# Altium footprint library Networks SMD.PcbLib: 25 footprints (part 1 of 2)
Each footprint in its own frame and in the unit in brackets; x right, y up, seen from the top. Pads: shape width x height; smd on the part's side, far side on the other; paste and mask are expansions set on the pad; w line width, h text height; cw(c..) or ccw(c..) is an arc to the next point about the centre after c.
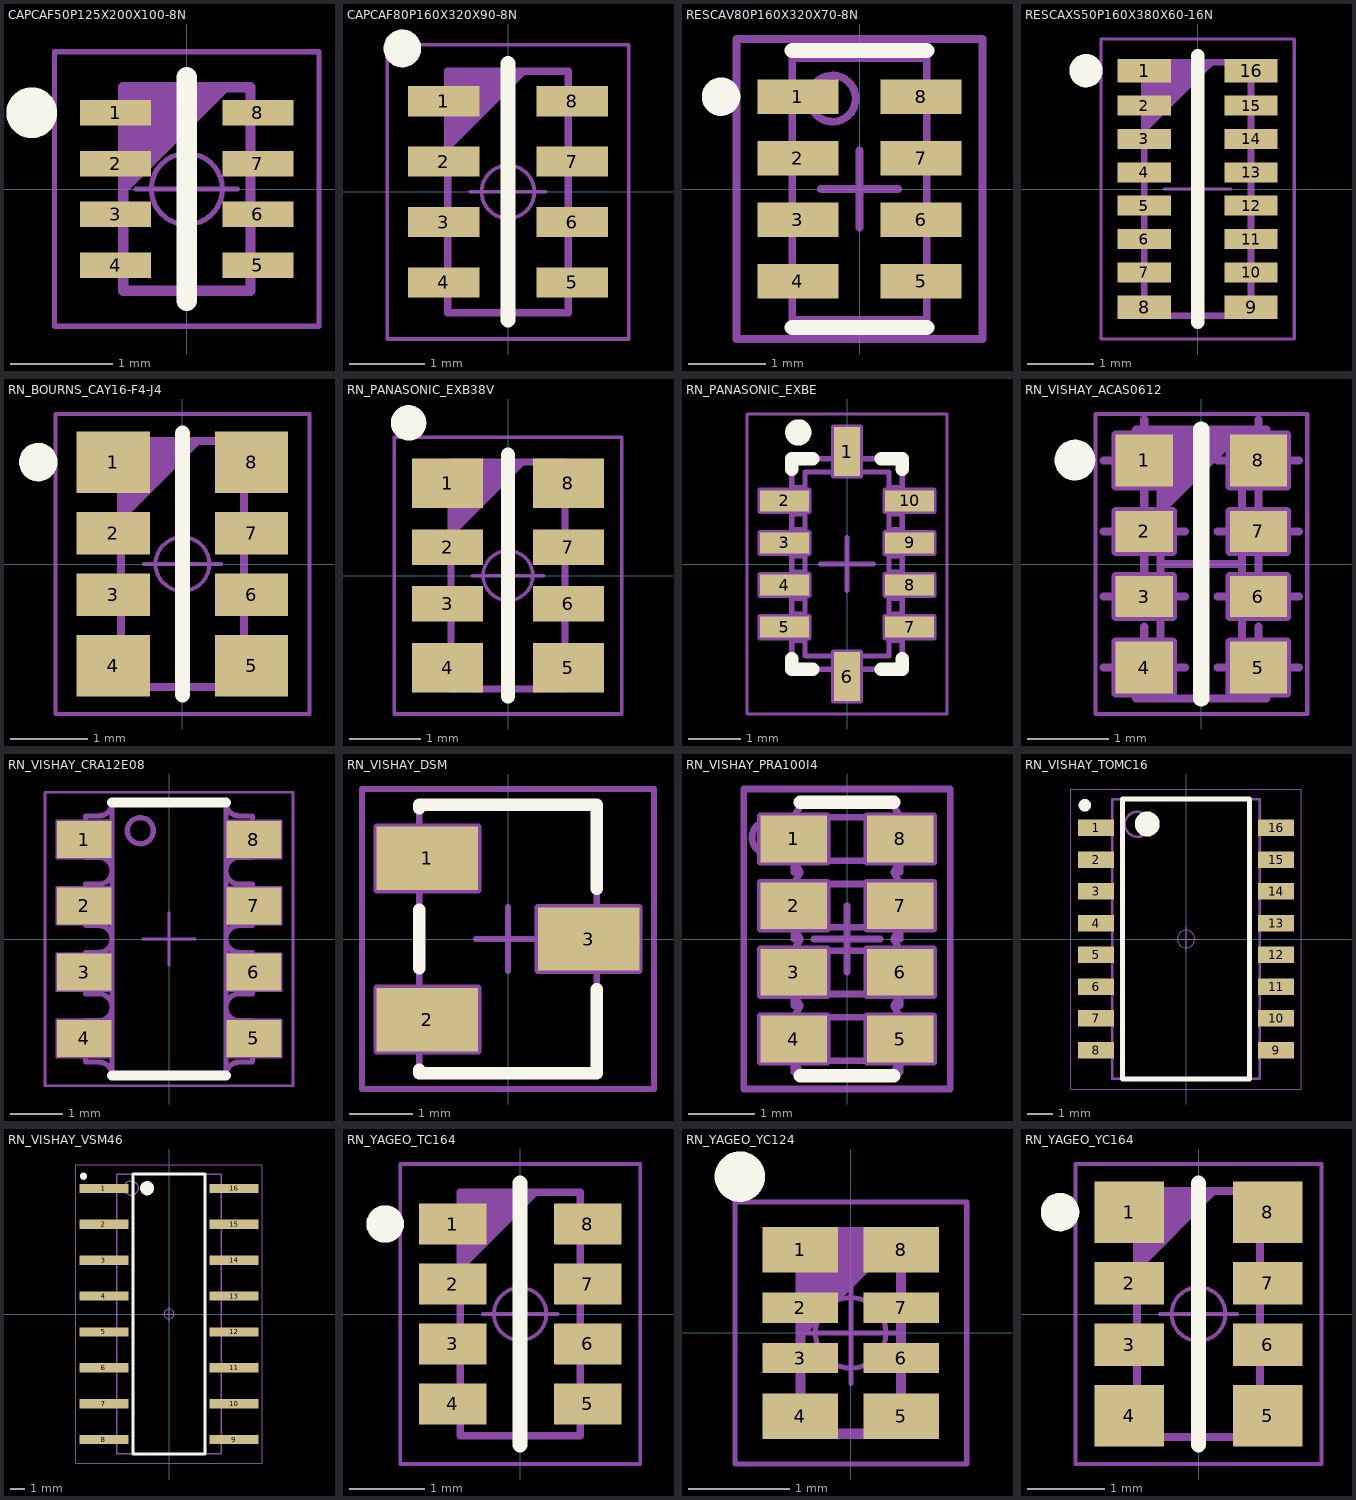
[diagram p0: the footprints below, top view; thin cyan lines are the x and y axes]

## CAPCAF50P125X200X100-8N [mm] "Capacitor,non-polarized,Chip Array,0.50mm pitch;8 pin,1.25mm W X 2.00mm L X 1.00mm H, IPC Medium Density"
height 1
pads (8):
  rect 0.7x0.25 smd: 1(-0.7,0.75) 2(-0.7,0.25) 3(-0.7,-0.25) 4(-0.7,-0.75) 5(0.7,-0.75) 6(0.7,-0.25) 7(0.7,0.25) 8(0.7,0.75)
Top Overlay:
  circle w0.25: c-1.525,0.75 r0.125
  lines w0.2: 0,-1.1 0,1.1
Mechanical 14:
  lines w0.1: -0.625,0 0.375,1 ; -0.625,0.1 0.275,1 ; -0.625,0.2 0.175,1 ; -0.625,0.3 0.075,1 ; -0.625,0.4 -0.025,1 ; -0.625,0.5 -0.125,1 ; -0.625,0.6 -0.225,1 ; -0.625,0.7 -0.325,1 ; -0.625,0.8 -0.425,1 ; -0.625,0.9 -0.525,1 ; -0.625,-1 0.625,-1 0.625,1 -0.625,1 -0.625,-1
Mechanical 15:
  circle w0.05: c0,0 r0.35
  lines w0.05: -0.5,0 0.5,0 ; 0,-0.5 0,0.5 ; -1.3,-1.35 1.3,-1.35 1.3,1.35 -1.3,1.35 -1.3,-1.35
3D body "CAPCAF50P125X200X100-8N.stp": height 1, standoff 0, extent -0.7,-1.075 0.7,1.075

## CAPCAF80P160X320X90-8N [mm] "Capacitor, Non-Polarized,Chip Array, 0.80mm Pitch; 8 Pin, 1.6mm W X 3.20mm L X 0.90mm H, IPC Medium Density"
height 0.9
pads (8):
  rect 0.95x0.4 smd: 1(-0.85,1.2) 2(-0.85,0.4) 3(-0.85,-0.4) 4(-0.85,-1.2) 5(0.85,-1.2) 6(0.85,-0.4) 7(0.85,0.4) 8(0.85,1.2)
Top Overlay:
  circle w0.25: c-1.4,1.9 r0.125
  lines w0.2: 0,-1.7 0,1.7
Mechanical 14:
  lines w0.1: -0.8,0.6 0.2,1.6 ; -0.8,0.7 0.1,1.6 ; -0.8,0.8 0,1.6 ; -0.8,0.9 -0.1,1.6 ; -0.8,1 -0.2,1.6 ; -0.8,1.1 -0.3,1.6 ; -0.8,1.2 -0.4,1.6 ; -0.8,1.3 -0.5,1.6 ; -0.8,1.4 -0.6,1.6 ; -0.8,1.5 -0.7,1.6 ; -0.8,-1.6 0.8,-1.6 0.8,1.6 -0.8,1.6 -0.8,-1.6
Mechanical 15:
  circle w0.05: c0,0 r0.35
  lines w0.05: -0.5,0 0.5,0 ; 0,-0.5 0,0.5 ; -1.6,-1.95 1.6,-1.95 1.6,1.95 -1.6,1.95 -1.6,-1.95
3D body "CAPCAF80P160X320X90-8N.stp": height 0.9, standoff 0, extent -0.875,-1.675 0.875,1.675

## RESCAV80P160X320X70-8N [mm] "Resistor, Chip Array, Concave, Pitch 0.80mm, 8-Leads,1.6x3.2mm(max), IPC Medium Density"
height 0.7
pads (8):
  rect 1.05x0.45 smd: 1(-0.8,1.2) 2(-0.8,0.4) 3(-0.8,-0.4) 4(-0.8,-1.2) 5(0.8,-1.2) 6(0.8,-0.4) 7(0.8,0.4) 8(0.8,1.2)
Top Overlay:
  circle w0.25: c-1.8,1.2 r0.125
  lines w0.2: -0.875,-1.8 0.875,-1.8 ; -0.875,1.8 0.875,1.8
Mechanical 14:
  circle w0.1: c-0.35,1.175 r0.3
  lines w0.1: -0.875,-1.7 0.875,-1.7 0.875,1.7 -0.875,1.7 -0.875,-1.7
Mechanical 15:
  lines w0.1: -0.5,0 0.5,0 ; 0,-0.5 0,0.5 ; -1.6,-1.95 1.6,-1.95 1.6,1.95 -1.6,1.95 -1.6,-1.95
3D body: height 0.7, standoff 0, extent -0.875,-1.7 0.875,1.7

## RESCAXS50P160X380X60-16N [mm] "Resistor, Chip Array, 0.50mm pitch; 16 pin, 1.60mm W X 3.80mm L X 0.60mm H, IPC Medium Density"
height 0.6
pads (16):
  rect 0.8x0.35 smd: 1(-0.8,1.775) 8(-0.8,-1.775) 9(0.8,-1.775) 16(0.8,1.775)
  rect 0.8x0.3 smd: 2(-0.8,1.25) 3(-0.8,0.75) 4(-0.8,0.25) 5(-0.8,-0.25) 6(-0.8,-0.75) 7(-0.8,-1.25) 10(0.8,-1.25) 11(0.8,-0.75) 12(0.8,-0.25) 13(0.8,0.25) 14(0.8,0.75) 15(0.8,1.25)
Top Overlay:
  circle w0.25: c-1.675,1.775 r0.125
  lines w0.2: 0,-2 0,2
Mechanical 14:
  lines w0.1: -0.8,-1.9 0.8,-1.9 0.8,1.9 -0.8,1.9 -0.8,-1.9 ; -0.8,0.9 0.2,1.9 -0.8,0.9 ; -0.8,1 0.1,1.9 -0.8,1 ; -0.8,1.1 0,1.9 -0.8,1.1 ; -0.8,1.2 -0.1,1.9 -0.8,1.2 ; -0.8,1.3 -0.2,1.9 -0.8,1.3 ; -0.8,1.4 -0.3,1.9 -0.8,1.4 ; -0.8,1.5 -0.4,1.9 -0.8,1.5 ; -0.8,1.6 -0.5,1.9 -0.8,1.6 ; -0.8,1.7 -0.6,1.9 -0.8,1.7 ; -0.8,1.8 -0.7,1.9 -0.8,1.8
Mechanical 15:
  lines w0.05: -0.5,0 0.5,0 ; 0,-0.5 0,0.5 ; -1.45,-2.25 1.45,-2.25 1.45,2.25 -1.45,2.25 -1.45,-2.25
3D body "RESCAXS50P160X380X60-16N.stp": height 0.6, standoff 0, extent -0.9,-2 0.9,2

## RN_BOURNS_CAY16-F4-J4 [mm] "Resistor, Chip Array, Convex S Version, Pitch 0.80mm, 8-Leads,1.6x3.2mm, BOURNS Type CAY16-F4 or J4, IPC Medium Density"
height 0.6
pads (8):
  rect 0.95x0.8 smd: 1(-0.9,1.325) 4(-0.9,-1.325) 5(0.9,-1.325) 8(0.9,1.325)
  rect 0.95x0.55 smd: 2(-0.9,0.4) 3(-0.9,-0.4) 6(0.9,-0.4) 7(0.9,0.4)
Top Overlay:
  circle w0.25: c-1.875,1.325 r0.125
  lines w0.2: 0,-1.7 0,1.7
Mechanical 14:
  lines w0.1: -0.8,-1.6 -0.8,1.6 0.8,1.6 0.8,-1.6 -0.8,-1.6 ; -0.8,0.6 0.2,1.6 -0.8,0.6 ; -0.8,0.7 0.1,1.6 -0.8,0.7 ; -0.8,0.8 0,1.6 -0.8,0.8 ; -0.8,0.9 -0.1,1.6 -0.8,0.9 ; -0.8,1 -0.2,1.6 -0.8,1 ; -0.8,1.1 -0.3,1.6 -0.8,1.1 ; -0.8,1.2 -0.4,1.6 -0.8,1.2 ; -0.8,1.3 -0.5,1.6 -0.8,1.3 ; -0.8,1.4 -0.6,1.6 -0.8,1.4 ; -0.8,1.5 -0.7,1.6 -0.8,1.5
Mechanical 15:
  circle w0.05: c0,0 r0.35
  lines w0.05: -0.5,0 0.5,0 ; 0,-0.5 0,0.5 ; -1.65,-1.95 -1.65,1.95 1.65,1.95 1.65,-1.95 -1.65,-1.95
3D body "RN_BOURNS_CAY16-F4-J4.stp": height 0.5, standoff 0, extent -0.8,-1.65 0.8,1.65

## RN_PANASONIC_EXB38V [mm] "Resistor, Chip Array, 0.80mm Pitch; 8 Pin, 1.60mm W X 3.20mm L X 0.60mm H, IPC Medium Density"
height 0.45
pads (8):
  rect 1x0.7 smd: 1(-0.85,1.3) 4(-0.85,-1.3) 5(0.85,-1.3) 8(0.85,1.3)
  rect 1x0.5 smd: 2(-0.85,0.4) 3(-0.85,-0.4) 6(0.85,-0.4) 7(0.85,0.4)
Top Overlay:
  circle w0.25: c-1.4,2.15 r0.125
  lines w0.2: 0,-1.7 0,1.7
Mechanical 14:
  lines w0.1: -0.8,-1.6 0.8,-1.6 0.8,1.6 -0.8,1.6 -0.8,-1.6 ; -0.8,0.6 0.2,1.6 -0.8,0.6 ; -0.8,0.7 0.1,1.6 -0.8,0.7 ; -0.8,0.8 0,1.6 -0.8,0.8 ; -0.8,0.9 -0.1,1.6 -0.8,0.9 ; -0.8,1 -0.2,1.6 -0.8,1 ; -0.8,1.1 -0.3,1.6 -0.8,1.1 ; -0.8,1.2 -0.4,1.6 -0.8,1.2 ; -0.8,1.3 -0.5,1.6 -0.8,1.3 ; -0.8,1.4 -0.6,1.6 -0.8,1.4 ; -0.8,1.5 -0.7,1.6 -0.8,1.5
Mechanical 15:
  circle w0.05: c0,0 r0.35
  lines w0.05: -0.5,0 0.5,0 ; 0,-0.5 0,0.5 ; -1.6,-1.95 1.6,-1.95 1.6,1.95 -1.6,1.95 -1.6,-1.95
3D body "RN_PANASONIC_EXB38V.stp": height 0.6, standoff 0, extent -0.8,-1.6 0.8,1.6

## RN_PANASONIC_EXBE [mm] "Resistor, Chip Array, Concave, Pitch 0.80mm, 10 Pin, 2.1mm W X 4.0mm L X 2.3mm H, Type EXBE"
height 2.3
pads (10):
  rect 0.5x0.925 smd: 1(0,2.138) 6(0,-2.137)
  rect 0.925x0.4 smd: 2(-1.188,1.2) 3(-1.188,0.4) 4(-1.188,-0.4) 5(-1.188,-1.2) 7(1.188,-1.2) 8(1.188,-0.4) 9(1.188,0.4) 10(1.188,1.2)
Top Overlay:
  circle w0.25: c-0.925,2.5 r0.125
  lines w0.25: -1.05,-1.8 -1.05,-2 -0.65,-2 ; -1.05,1.8 -1.05,2 -0.65,2 ; 0.65,-2 1.05,-2 1.05,-1.8 ; 0.65,2 1.05,2 1.05,1.8
Mechanical 8:
  lines w0.1: -0.5,0 0,0 ; 0,-0.5 0,0 ; 0,0.5 0,0 ; 0.5,0 0,0 ; -1.65,-1.4 -1.188,-1.2 -1.65,-1 ; -1.65,-1.4 -0.725,-1.4 -0.725,-1 -1.65,-1 ; -1.65,-1.4 -1.65,-1 ; -1.65,-0.6 -1.188,-0.4 -1.65,-0.2 ; -1.65,-0.6 -0.725,-0.6 -0.725,-0.2 -1.65,-0.2 ; -1.65,-0.6 -1.65,-0.2 ; -1.65,0.2 -1.188,0.4 -1.65,0.6 ; -1.65,0.2 -0.725,0.2 -0.725,0.6 -1.65,0.6 ; -1.65,0.2 -1.65,0.6 ; -1.65,1 -1.188,1.2 -1.65,1.4 ; -1.65,1 -0.725,1 -0.725,1.4 -1.65,1.4 ; -1.65,1 -1.65,1.4 ; -0.25,-2.6 0,-2.137 0.25,-2.6 ; -0.25,-2.6 -0.25,-1.675 0.25,-1.675 0.25,-2.6 ; -0.25,-2.6 0.25,-2.6 ; -0.25,2.6 0,2.138 0.25,2.6 ; -0.25,2.6 -0.25,1.675 0.25,1.675 0.25,2.6 ; -0.25,2.6 0.25,2.6 ; 1.65,-1.4 1.188,-1.2 1.65,-1 ; 1.65,-1.4 0.725,-1.4 0.725,-1 1.65,-1 ; 1.65,-1.4 1.65,-1 ; 1.65,-0.6 1.188,-0.4 1.65,-0.2 ; 1.65,-0.6 0.725,-0.6 0.725,-0.2 1.65,-0.2 ; 1.65,-0.6 1.65,-0.2 ; 1.65,0.2 1.188,0.4 1.65,0.6 ; 1.65,0.2 0.725,0.2 0.725,0.6 1.65,0.6 ; 1.65,0.2 1.65,0.6 ; 1.65,1 1.188,1.2 1.65,1.4 ; 1.65,1 0.725,1 0.725,1.4 1.65,1.4 ; 1.65,1 1.65,1.4
Mechanical 14:
  lines w0.1: -1.05,-1.45 -0.8,-1.45 ; -1.05,-0.95 -0.8,-0.95 ; -1.05,-0.65 -0.8,-0.65 ; -1.05,-0.15 -0.8,-0.15 ; -1.05,0.15 -0.8,0.15 ; -1.05,0.65 -0.8,0.65 ; -1.05,0.95 -0.8,0.95 ; -1.05,1.45 -0.8,1.45 ; -0.25,-2 -0.25,-1.75 ; -0.25,1.75 -0.25,2 ; 0.25,-2 0.25,-1.75 ; 0.25,1.75 0.25,2 ; 0.8,-1.45 1.05,-1.45 ; 0.8,-0.95 1.05,-0.95 ; 0.8,-0.65 1.05,-0.65 ; 0.8,-0.15 1.05,-0.15 ; 0.8,0.15 1.05,0.15 ; 0.8,0.65 1.05,0.65 ; 0.8,0.95 1.05,0.95 ; 0.8,1.45 1.05,1.45 ; -1.05,-2 -0.15,-2 cw(c0,-2) 0.15,-2 1.05,-2 1.05,-1.35 cw(c1.05,-1.2) 1.05,-1.05 1.05,-0.55 cw(c1.05,-0.4) 1.05,-0.25 1.05,0.25 cw(c1.05,0.4) 1.05,0.55 1.05,1.05 cw(c1.05,1.2) 1.05,1.35 1.05,2 0.15,2 cw(c0,2) -0.15,2 -1.05,2 -1.05,1.35 cw(c-1.05,1.2) -1.05,1.05 -1.05,0.55 cw(c-1.05,0.4) -1.05,0.25 -1.05,-0.25 cw(c-1.05,-0.4) -1.05,-0.55 -1.05,-1.05 cw(c-1.05,-1.2) -1.05,-1.35 -1.05,-2 ; -0.8,-1.75 0.8,-1.75 0.8,1.75 -0.8,1.75 -0.8,-1.75
Mechanical 15:
  lines w0.05: -1.9,-2.85 1.9,-2.85 1.9,2.85 -1.9,2.85 -1.9,-2.85
3D body "RN_PANASONIC_EXBE.stp": height 0.65, standoff 0, extent -1.05,-2 1.05,2

## RN_VISHAY_ACAS0612 [mm] "Resistor, Chip Array, Convex S Version, Pitch 0.80mm, 8-Leads,1.5x3.2mm, VISHAY Type ACAS 0612, IPC Medium Density"
height 0.45
pads (8):
  rect 0.7x0.64 smd: 1(-0.7,1.27) 4(-0.7,-1.27) 5(0.7,-1.27) 8(0.7,1.27)
  rect 0.7x0.5 smd: 2(-0.7,0.4) 3(-0.7,-0.4) 6(0.7,-0.4) 7(0.7,0.4)
Top Overlay:
  circle w0.25: c-1.55,1.275 r0.125
  lines w0.2: 0,-1.65 0,1.65
Mechanical 8:
  lines w0.1: -1.2,-1.27 -0.7,-1.27 ; -1.2,-0.4 -0.7,-0.4 ; -1.2,0.4 -0.7,0.4 ; -1.2,1.27 -0.7,1.27 ; -0.7,-0.77 -0.7,-1.27 ; -0.7,0.1 -0.7,-0.4 ; -0.7,0.9 -0.7,0.4 ; -0.7,1.77 -0.7,1.27 ; -0.5,0 0,0 ; -0.2,-1.27 -0.7,-1.27 ; -0.2,-0.4 -0.7,-0.4 ; -0.2,0.4 -0.7,0.4 ; -0.2,1.27 -0.7,1.27 ; 0,-0.5 0,0 ; 0,0.5 0,0 ; 0.2,-1.27 0.7,-1.27 ; 0.2,-0.4 0.7,-0.4 ; 0.2,0.4 0.7,0.4 ; 0.2,1.27 0.7,1.27 ; 0.5,0 0,0 ; 0.7,-0.77 0.7,-1.27 ; 0.7,0.1 0.7,-0.4 ; 0.7,0.9 0.7,0.4 ; 0.7,1.77 0.7,1.27 ; 1.2,-1.27 0.7,-1.27 ; 1.2,-0.4 0.7,-0.4 ; 1.2,0.4 0.7,0.4 ; 1.2,1.27 0.7,1.27 ; -1.05,-1.59 -1.05,-0.95 -0.35,-0.95 -0.35,-1.59 -1.05,-1.59 ; -1.05,-0.65 -1.05,-0.15 -0.35,-0.15 -0.35,-0.65 -1.05,-0.65 ; -1.05,0.15 -1.05,0.65 -0.35,0.65 -0.35,0.15 -1.05,0.15 ; -1.05,0.95 -1.05,1.59 -0.35,1.59 -0.35,0.95 -1.05,0.95 ; 0.35,-1.59 0.35,-0.95 1.05,-0.95 1.05,-1.59 0.35,-1.59 ; 0.35,-0.65 0.35,-0.15 1.05,-0.15 1.05,-0.65 0.35,-0.65 ; 0.35,0.15 0.35,0.65 1.05,0.65 1.05,0.15 0.35,0.15 ; 0.35,0.95 0.35,1.59 1.05,1.59 1.05,0.95 0.35,0.95
Mechanical 14:
  lines w0.1: -0.5,-1.65 -0.5,1.65 ; -0.5,-1.027 cw(c-0.6,-0.825) -0.6,-1.05 -0.8,-1.05 -0.8,-1.65 0.8,-1.65 0.8,-1.05 0.6,-1.05 cw(c0.6,-0.825) 0.5,-1.027 ; -0.5,-0.623 ccw(c-0.6,-0.825) -0.6,-0.6 -0.8,-0.6 -0.8,-0.2 -0.6,-0.2 ccw(c-0.6,0) -0.5,-0.173 ; -0.5,0.173 ccw(c-0.6,0) -0.6,0.2 -0.8,0.2 -0.8,0.6 -0.6,0.6 ccw(c-0.6,0.825) -0.5,0.623 ; -0.5,1.027 ccw(c-0.6,0.825) -0.6,1.05 -0.8,1.05 -0.8,1.65 0.8,1.65 0.8,1.05 0.6,1.05 ccw(c0.6,0.825) 0.5,1.027 ; 0.5,-1.65 0.5,1.65 ; 0.5,-0.623 cw(c0.6,-0.825) 0.6,-0.6 0.8,-0.6 0.8,-0.2 0.6,-0.2 cw(c0.6,0) 0.5,-0.173 ; 0.5,0.173 cw(c0.6,0) 0.6,0.2 0.8,0.2 0.8,0.6 0.6,0.6 cw(c0.6,0.825) 0.5,0.623 ; 0.5,1.65 -0.5,0.65 0.5,1.65 ; -0.5,0.75 0.4,1.65 -0.5,0.75 ; -0.5,0.85 0.3,1.65 -0.5,0.85 ; -0.5,0.95 0.2,1.65 -0.5,0.95 ; -0.5,1.05 0.1,1.65 -0.5,1.05 ; -0.5,1.15 0,1.65 -0.5,1.15 ; -0.5,1.25 -0.1,1.65 -0.5,1.25 ; -0.5,1.35 -0.2,1.65 -0.5,1.35 ; -0.5,1.45 -0.3,1.65 -0.5,1.45 ; -0.5,1.55 -0.4,1.65 -0.5,1.55
Mechanical 15:
  lines w0.05: -1.3,-1.84 1.3,-1.84 1.3,1.84 -1.3,1.84 -1.3,-1.84
3D body "RN_VISHAY_ACAS0612.stp": height 0.55, standoff 0, extent -0.8,-1.65 0.8,1.65

## RN_VISHAY_CRA12E08 [mm] "Resistor, Chip Array, Pitch 1.27mm, 8 Pin, 3.05mm W X 5.08mm L X 0.70mm H, Serie CRA12E"
height 0.7
pads (8):
  rect 1.05x0.71 smd: 1(-1.625,1.905) 2(-1.625,0.635) 3(-1.625,-0.635) 4(-1.625,-1.905) 5(1.625,-1.905) 6(1.625,-0.635) 7(1.625,0.635) 8(1.625,1.905)
Top Overlay:
  lines w0.2: -1.09,-2.615 1.09,-2.615 ; -1.09,2.615 1.09,2.615
Mechanical 8:
  lines w0.05: -1.875,-1.905 -1.625,-1.905 ; -1.875,-0.635 -1.625,-0.635 ; -1.875,0.635 -1.625,0.635 ; -1.875,1.905 -1.625,1.905 ; -1.625,-2.155 -1.625,-1.905 ; -1.625,-0.885 -1.625,-0.635 ; -1.625,0.385 -1.625,0.635 ; -1.625,1.655 -1.625,1.905 ; -1.375,-1.905 -1.625,-1.905 ; -1.375,-0.635 -1.625,-0.635 ; -1.375,0.635 -1.625,0.635 ; -1.375,1.905 -1.625,1.905 ; -0.5,0 0,0 ; 0,-0.5 0,0 ; 0,0.5 0,0 ; 0.5,0 0,0 ; 1.375,-1.905 1.625,-1.905 ; 1.375,-0.635 1.625,-0.635 ; 1.375,0.635 1.625,0.635 ; 1.375,1.905 1.625,1.905 ; 1.625,-2.155 1.625,-1.905 ; 1.625,-0.885 1.625,-0.635 ; 1.625,0.385 1.625,0.635 ; 1.625,1.655 1.625,1.905 ; 1.875,-1.905 1.625,-1.905 ; 1.875,-0.635 1.625,-0.635 ; 1.875,0.635 1.625,0.635 ; 1.875,1.905 1.625,1.905 ; -2.15,-2.26 -2.15,-1.55 -1.1,-1.55 -1.1,-2.26 -2.15,-2.26 ; -2.15,-0.99 -2.15,-0.28 -1.1,-0.28 -1.1,-0.99 -2.15,-0.99 ; -2.15,0.28 -2.15,0.99 -1.1,0.99 -1.1,0.28 -2.15,0.28 ; -2.15,1.55 -2.15,2.26 -1.1,2.26 -1.1,1.55 -2.15,1.55 ; 1.1,-2.26 1.1,-1.55 2.15,-1.55 2.15,-2.26 1.1,-2.26 ; 1.1,-0.99 1.1,-0.28 2.15,-0.28 2.15,-0.99 1.1,-0.99 ; 1.1,0.28 1.1,0.99 2.15,0.99 2.15,0.28 1.1,0.28 ; 1.1,1.55 1.1,2.26 2.15,2.26 2.15,1.55 1.1,1.55
Mechanical 14:
  circle w0.1: c-0.55,2.075 r0.25
  lines w0.1: -1.09,-2.615 ccw(c-1.349,-2.615) -1.349,-2.356 -1.6,-2.356 -1.6,-1.566 -1.349,-1.566 ccw(c-1.349,-1.308) -1.349,-1.049 -1.6,-1.049 -1.6,-0.259 -1.349,-0.259 ccw(c-1.349,0) -1.349,0.259 -1.6,0.259 -1.6,1.049 -1.349,1.049 ccw(c-1.349,1.308) -1.349,1.566 -1.6,1.566 -1.6,2.356 -1.349,2.356 ccw(c-1.349,2.615) -1.09,2.615 ; -1.09,-2.615 1.09,-2.615 ; -1.09,-2.615 -1.09,2.615 ; -1.09,2.615 1.09,2.615 ; 1.09,-2.615 cw(c1.349,-2.615) 1.349,-2.356 1.6,-2.356 1.6,-1.566 1.349,-1.566 cw(c1.349,-1.308) 1.349,-1.049 1.6,-1.049 1.6,-0.259 1.349,-0.259 cw(c1.349,0) 1.349,0.259 1.6,0.259 1.6,1.049 1.349,1.049 cw(c1.349,1.308) 1.349,1.566 1.6,1.566 1.6,2.356 1.349,2.356 cw(c1.349,2.615) 1.09,2.615 ; 1.09,-2.615 1.09,2.615
Mechanical 15:
  lines w0.05: -2.375,-2.815 -2.375,2.815 2.375,2.815 2.375,-2.815 -2.375,-2.815
3D body "RN_VISHAY_CRA12E08.stp": height 0.7, standoff 0, extent -1.6,-2.615 1.6,2.615

## RN_VISHAY_DSM [mm] "SOT23 3-Leads, Pitch 1.25m - Body 2.7x4mm, DSM Serie"
height 1.8
pads (3):
  rect 1.6x1 smd: 1(-1.27,1.27) 2(-1.27,-1.27) 3(1.27,0)
Top Overlay:
  lines w0.2: -1.398,-2.06 -1.398,-2.113 1.398,-2.113 1.398,-0.79 ; -1.398,-0.46 -1.398,0.46 ; -1.398,2.06 -1.398,2.113 1.398,2.113 1.398,0.79
Mechanical 8:
  lines w0.1: -2.07,-1.27 -0.47,-1.27 ; -1.77,-1.27 -1.27,-1.27 ; -1.77,1.27 -1.27,1.27 ; -1.27,-1.77 -1.27,-1.27 ; -1.27,-0.77 -1.27,-1.27 ; -1.27,0.77 -1.27,1.27 ; -1.27,1.77 -1.27,1.27 ; -0.77,-1.27 -1.27,-1.27 ; -0.77,1.27 -1.27,1.27 ; -0.5,0 0,0 ; 0,-0.5 0,0 ; 0,0.5 0,0 ; 0.5,0 0,0 ; 0.77,0 1.27,0 ; 1.27,-0.5 1.27,0 ; 1.27,0.5 1.27,0 ; 1.77,0 1.27,0 ; -2.07,-1.77 -2.07,-0.77 -0.47,-0.77 -0.47,-1.77 -2.07,-1.77 ; -2.07,0.77 -2.07,1.77 -0.47,1.77 -0.47,0.77 -2.07,0.77 ; 0.47,-0.5 0.47,0.5 2.07,0.5 2.07,-0.5 0.47,-0.5
Mechanical 14:
  lines w0.1: -1.398,-1.67 -1.515,-1.67 -1.515,-0.87 -1.398,-0.87 ; -1.398,0.87 -1.515,0.87 -1.515,1.67 -1.385,1.67 ; 1.398,-0.4 1.515,-0.4 1.515,0.4 1.398,0.4 ; -1.398,2.113 -1.398,-2.113 1.398,-2.113 1.398,2.113 ; -1.398,2.113 1.398,2.113 ; -1.398,2.113 1.398,2.113
Mechanical 15:
  lines w0.1: -2.3,-2.363 -2.3,2.363 2.3,2.363 2.3,-2.363 -2.3,-2.363
3D body "RN_VISHAY_DSM.stp": height 1.8, standoff 0, extent -1.515,-2.113 1.515,2.113

## RN_VISHAY_PRA100I4 [mm] "Resistor, Chip Array, Pitch 1mm, 8 Pin, 1.60mm W X 4mm L X 0.50mm H, Serie PRA100"
height 0.5
pads (8):
  rect 1x0.7 smd: 1(-0.8,1.5) 2(-0.8,0.5) 3(-0.8,-0.5) 4(-0.8,-1.5) 5(0.8,-1.5) 6(0.8,-0.5) 7(0.8,0.5) 8(0.8,1.5)
Top Overlay:
  lines w0.2: -0.7,-2.05 0.7,-2.05 ; -0.7,2.05 0.7,2.05
Mechanical 8:
  lines w0.1: -1.3,-1.5 -0.8,-1.5 ; -1.3,-0.5 -0.8,-0.5 ; -1.3,0.5 -0.8,0.5 ; -1.3,1.5 -0.8,1.5 ; -0.8,-2 -0.8,-1.5 ; -0.8,-1 -0.8,-0.5 ; -0.8,0 -0.8,0.5 ; -0.8,1 -0.8,1.5 ; -0.5,0 0,0 ; -0.3,-1.5 -0.8,-1.5 ; -0.3,-0.5 -0.8,-0.5 ; -0.3,0.5 -0.8,0.5 ; -0.3,1.5 -0.8,1.5 ; 0,-0.5 0,0 ; 0,0.5 0,0 ; 0.3,-1.5 0.8,-1.5 ; 0.3,-0.5 0.8,-0.5 ; 0.3,0.5 0.8,0.5 ; 0.3,1.5 0.8,1.5 ; 0.5,0 0,0 ; 0.8,-2 0.8,-1.5 ; 0.8,-1 0.8,-0.5 ; 0.8,0 0.8,0.5 ; 0.8,1 0.8,1.5 ; 1.3,-1.5 0.8,-1.5 ; 1.3,-0.5 0.8,-0.5 ; 1.3,0.5 0.8,0.5 ; 1.3,1.5 0.8,1.5 ; -1.3,-1.85 -1.3,-1.15 -0.3,-1.15 -0.3,-1.85 -1.3,-1.85 ; -1.3,-0.85 -1.3,-0.15 -0.3,-0.15 -0.3,-0.85 -1.3,-0.85 ; -1.3,0.15 -1.3,0.85 -0.3,0.85 -0.3,0.15 -1.3,0.15 ; -1.3,1.15 -1.3,1.85 -0.3,1.85 -0.3,1.15 -1.3,1.15 ; 0.3,-1.85 0.3,-1.15 1.3,-1.15 1.3,-1.85 0.3,-1.85 ; 0.3,-0.85 0.3,-0.15 1.3,-0.15 1.3,-0.85 0.3,-0.85 ; 0.3,0.15 0.3,0.85 1.3,0.85 1.3,0.15 0.3,0.15 ; 0.3,1.15 0.3,1.85 1.3,1.85 1.3,1.15 0.3,1.15
Mechanical 14:
  circle w0.1: c-1.175,1.525 r0.25
  lines w0.1: -0.4,-1.825 -0.4,-1.175 ; -0.4,-0.825 -0.4,-0.175 ; 0.4,-1.825 0.4,-1.175 ; 0.4,-0.825 0.4,-0.175 ; 0.4,0.175 0.4,0.825 ; 0.4,1.175 0.4,1.825 ; -0.8,-1.825 -0.8,-1.175 ; -0.8,-1.825 -0.7,-2 0.7,-2 0.8,-1.825 ; -0.8,-1.825 0.8,-1.825 ; -0.8,-1.175 -0.7,-1 -0.8,-0.825 ; -0.8,-1.175 0.8,-1.175 ; -0.8,-0.825 -0.8,-0.175 ; -0.8,-0.825 0.8,-0.825 ; -0.8,-0.175 -0.7,0 -0.8,0.175 ; -0.8,-0.175 0.8,-0.175 ; -0.8,0.175 -0.8,0.825 ; -0.8,0.175 0.8,0.175 ; -0.8,0.825 -0.7,1 -0.8,1.175 ; -0.8,0.825 0.8,0.825 ; -0.8,1.175 -0.8,1.825 ; -0.8,1.175 0.8,1.175 ; -0.8,1.825 -0.7,2 0.7,2 0.8,1.825 ; -0.8,1.825 0.8,1.825 ; 0.8,-1.825 0.8,-1.175 ; 0.8,-1.175 0.7,-1 0.8,-0.825 ; 0.8,-0.825 0.8,-0.175 ; 0.8,-0.175 0.7,0 0.8,0.175 ; 0.8,0.175 0.8,0.825 ; 0.8,0.825 0.7,1 0.8,1.175 ; 0.8,1.175 0.8,1.825 ; -0.4,0.175 -0.4,0.825 -0.4,0.175 ; -0.4,1.175 -0.4,1.825 -0.4,1.175
Mechanical 15:
  lines w0.1: -1.55,-2.25 -1.55,2.25 1.55,2.25 1.55,-2.25 -1.55,-2.25
3D body "RN_VISHAY_PRA100I4.stp": height 0.5, standoff 0, extent -0.8,-2 0.8,2

## RN_VISHAY_TOMC16 [mm] "SOIC,1.27mm, Pitch;16 Pin, 5.89mm W X 11.176mm L X 2.03mm H body, Serie TOMC"
height 2.03
pads (16):
  rect 1.45x0.65 smd: 1(-3.6,4.445) 2(-3.6,3.175) 3(-3.6,1.905) 4(-3.6,0.635) 5(-3.6,-0.635) 6(-3.6,-1.905) 7(-3.6,-3.175) 8(-3.6,-4.445) 9(3.6,-4.445) 10(3.6,-3.175) 11(3.6,-1.905) 12(3.6,-0.635) 13(3.6,0.635) 14(3.6,1.905) 15(3.6,3.175) 16(3.6,4.445)
Top Overlay:
  circle w0.5: c-1.55,4.6 r0.25
  circle w0.25: c-4.05,5.35 r0.125
  lines w0.2: -2.55,-5.6 2.55,-5.6 2.55,5.6 -2.55,5.6 -2.55,-5.6
Mechanical 14:
  circle w0.1: c-1.945,4.588 r0.5
  lines w0.1: -2.945,-5.588 2.945,-5.588 2.945,5.588 -2.945,5.588 -2.945,-5.588
Mechanical 15:
  circle w0.05: c0,0 r0.35
  lines w0.05: -0.5,0 0.5,0 ; 0,-0.5 0,0.5 ; -4.6,-6 4.6,-6 4.6,6 -4.6,6 -4.6,-6
3D body "RN_VISHAY_TOMC16.stp": height 2.05, standoff -0.02, extent -3.796,-5.588 3.797,5.588

## RN_VISHAY_VSM46 [mm] "SOIC, 2.54mm Pitch; 16 Pin, 7.37mm W X 19.81mm L X 4.572mm H body, IPC Medium Density"
height 4.572
pads (16):
  rect 3.45x0.65 smd: 1(-4.6,8.89) 2(-4.6,6.35) 3(-4.6,3.81) 4(-4.6,1.27) 5(-4.6,-1.27) 6(-4.6,-3.81) 7(-4.6,-6.35) 8(-4.6,-8.89) 9(4.6,-8.89) 10(4.6,-6.35) 11(4.6,-3.81) 12(4.6,-1.27) 13(4.6,1.27) 14(4.6,3.81) 15(4.6,6.35) 16(4.6,8.89)
Top Overlay:
  circle w0.25: c-6.05,9.75 r0.125
  circle w0.5: c-1.55,8.9 r0.25
  lines w0.2: -2.55,-9.9 -2.55,9.9 2.55,9.9 2.55,-9.9 -2.55,-9.9
Mechanical 14:
  circle w0.1: c-2.685,8.905 r0.5
  lines w0.1: -3.685,-9.905 -3.685,9.905 3.685,9.905 3.685,-9.905 -3.685,-9.905
Mechanical 15:
  circle w0.05: c0,0 r0.35
  lines w0.05: -0.5,0 0.5,0 ; 0,-0.5 0,0.5 ; -6.6,-10.55 -6.6,10.55 6.6,10.55 6.6,-10.55 -6.6,-10.55
3D body "RN_VISHAY_VSM46.stp": height 4.57, standoff 0, extent -5.969,-10.285 5.969,10.285

## RN_YAGEO_TC164 [mm] "Resistor, Chip Array, Concave, Pitch 0.80mm, 8 pin,1.60mm W X 3.20mm L X 0.70mm H, Type TC164, IPC Medium Density"
height 0.7
pads (8):
  rect 0.9x0.55 smd: 1(-0.9,1.2) 2(-0.9,0.4) 3(-0.9,-0.4) 4(-0.9,-1.2) 5(0.9,-1.2) 6(0.9,-0.4) 7(0.9,0.4) 8(0.9,1.2)
Top Overlay:
  circle w0.25: c-1.8,1.2 r0.125
  lines w0.2: 0,-1.75 0,1.75
Mechanical 14:
  lines w0.1: -0.8,0.625 0.2,1.625 ; -0.8,0.725 0.1,1.625 ; -0.8,0.825 0,1.625 ; -0.8,0.925 -0.1,1.625 ; -0.8,1.025 -0.2,1.625 ; -0.8,1.125 -0.3,1.625 ; -0.8,1.225 -0.4,1.625 ; -0.8,1.325 -0.5,1.625 ; -0.8,1.425 -0.6,1.625 ; -0.8,1.525 -0.7,1.625 ; -0.8,-1.625 -0.8,1.625 0.8,1.625 0.8,-1.625 -0.8,-1.625
Mechanical 15:
  circle w0.05: c0,0 r0.35
  lines w0.05: -0.5,0 0.5,0 ; 0,-0.5 0,0.5 ; -1.6,-2 -1.6,2 1.6,2 1.6,-2 -1.6,-2
3D body "RN_YAGEO_TC164.stp": height 0.7, standoff 0, extent -0.8,-1.65 0.8,1.65

## RN_YAGEO_YC124 [mm] "Resistor, Chip Array, Convex S Version, Pitch 0.50mm, 8 pin, 1mm W X 2mm L X 0.55mm H, Type YC124, IPC Medium Density"
height 0.7
pads (8):
  rect 0.75x0.45 smd: 1(-0.5,0.825) 4(-0.5,-0.825) 5(0.5,-0.825) 8(0.5,0.825)
  rect 0.75x0.3 smd: 2(-0.5,0.25) 3(-0.5,-0.25) 6(0.5,-0.25) 7(0.5,0.25)
Top Overlay:
  circle w0.25: c-1.1,1.55 r0.125
Mechanical 14:
  lines w0.1: 0.5,1 0.5,-1 -0.5,-1 -0.5,1 0.5,1 ; 0.5,1 -0.5,0 0.5,1 ; -0.5,0.1 0.4,1 -0.5,0.1 ; -0.5,0.2 0.3,1 -0.5,0.2 ; -0.5,0.3 0.2,1 -0.5,0.3 ; -0.5,0.4 0.1,1 -0.5,0.4 ; -0.5,0.5 0,1 -0.5,0.5 ; -0.5,0.6 -0.1,1 -0.5,0.6 ; -0.5,0.7 -0.2,1 -0.5,0.7 ; -0.5,0.8 -0.3,1 -0.5,0.8 ; -0.5,0.9 -0.4,1 -0.5,0.9
Mechanical 15:
  circle w0.05: c0,0 r0.35
  lines w0.05: -0.5,0 0.5,0 ; 0,-0.5 0,0.5 ; -1.15,-1.3 1.15,-1.3 1.15,1.3 -1.15,1.3 -1.15,-1.3
3D body "RN_YAGEO_YC124.stp": height 0.55, standoff 0, extent -0.55,-1.05 0.55,1.05

## RN_YAGEO_YC164 [mm] "Resistor, Chip Array, Convex S Version, Pitch 0.80mm, 8 pin, 1.60mm W X 3.20mm L X 0.70mm H, Type YC164, IPC Medium Density"
height 0.7
pads (8):
  rect 0.9x0.8 smd: 1(-0.9,1.325) 4(-0.9,-1.325) 5(0.9,-1.325) 8(0.9,1.325)
  rect 0.9x0.55 smd: 2(-0.9,0.4) 3(-0.9,-0.4) 6(0.9,-0.4) 7(0.9,0.4)
Top Overlay:
  circle w0.25: c-1.8,1.325 r0.125
  lines w0.2: 0,-1.7 0,1.7
Mechanical 14:
  lines w0.1: -0.8,-1.6 0.8,-1.6 0.8,1.6 -0.8,1.6 -0.8,-1.6 ; -0.8,0.6 0.2,1.6 -0.8,0.6 ; -0.8,0.7 0.1,1.6 -0.8,0.7 ; -0.8,0.8 0,1.6 -0.8,0.8 ; -0.8,0.9 -0.1,1.6 -0.8,0.9 ; -0.8,1 -0.2,1.6 -0.8,1 ; -0.8,1.1 -0.3,1.6 -0.8,1.1 ; -0.8,1.2 -0.4,1.6 -0.8,1.2 ; -0.8,1.3 -0.5,1.6 -0.8,1.3 ; -0.8,1.4 -0.6,1.6 -0.8,1.4 ; -0.8,1.5 -0.7,1.6 -0.8,1.5
Mechanical 15:
  circle w0.05: c0,0 r0.35
  lines w0.05: -0.5,0 0.5,0 ; 0,-0.5 0,0.5 ; -1.6,-1.95 1.6,-1.95 1.6,1.95 -1.6,1.95 -1.6,-1.95
3D body "RN_YAGEO_YC164.stp": height 0.7, standoff 0, extent -0.8,-1.65 0.8,1.65